# EAGLE library part EPM7160-P160 (library altera_SGQ)
EPM7160S MAX 7000 family
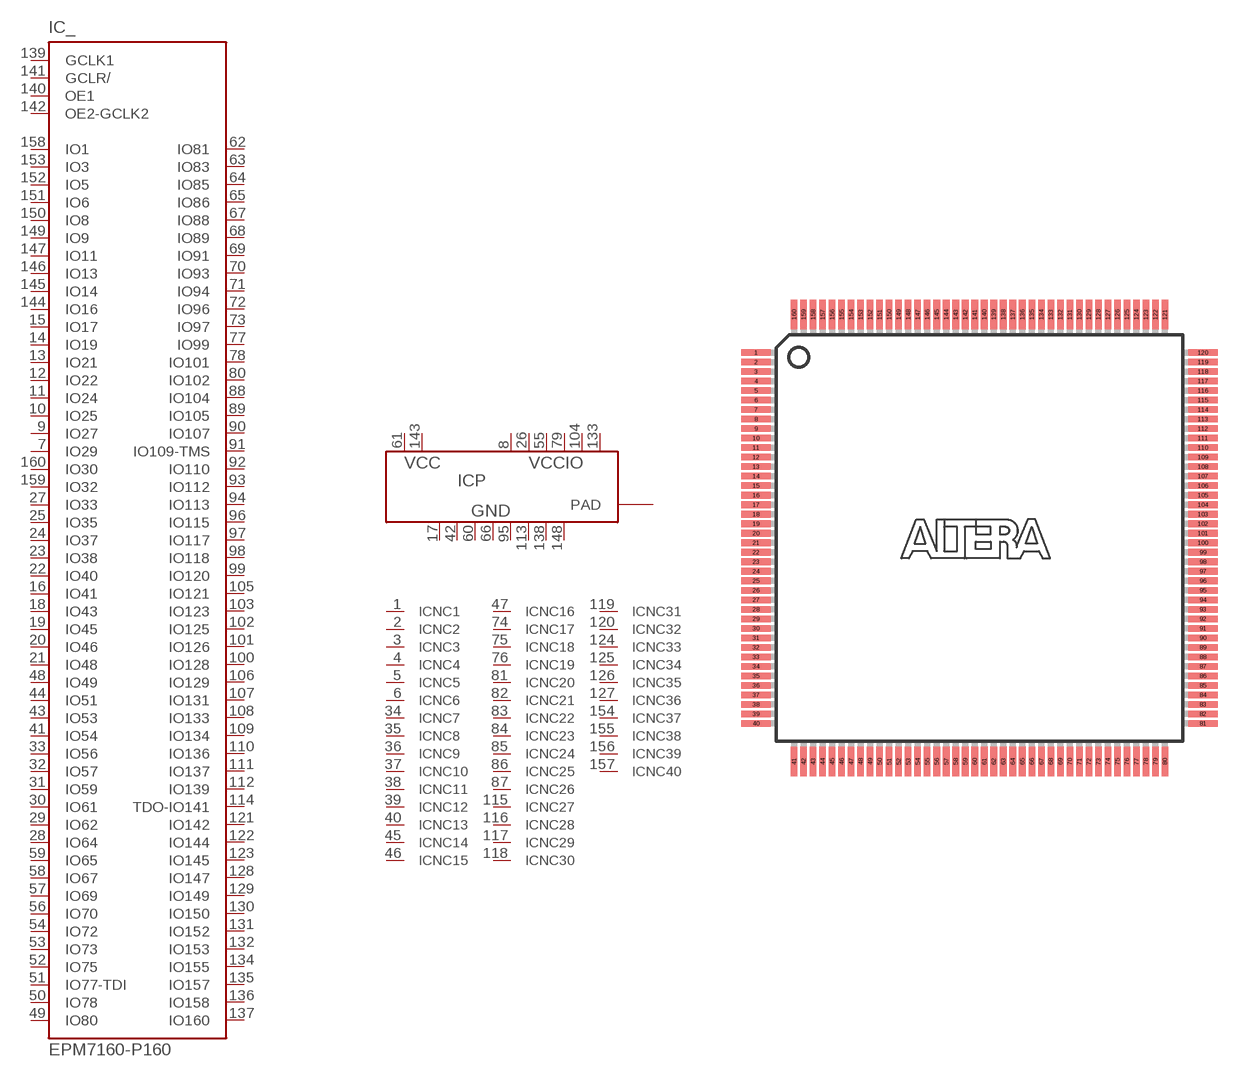
[diagram p18: symbol with the pads of PQFP160; footprint PQFP160]

Designator prefix IC; gates P=PWR8-2-6 NC1=NC NC2=NC NC3=NC NC4=NC NC5=NC NC6=NC NC7=NC NC8=NC NC9=NC NC10=NC NC11=NC NC12=NC NC13=NC NC14=NC NC15=NC NC16=NC NC17=NC NC18=NC NC19=NC NC20=NC NC21=NC NC22=NC NC23=NC NC24=NC NC25=NC NC26=NC NC27=NC NC28=NC NC29=NC NC30=NC NC31=NC NC32=NC NC33=NC NC34=NC NC35=NC NC36=NC NC37=NC NC38=NC NC39=NC NC40=NC _=7160P160

## EPM7160-P160 (MPN: EPM7160SQC160-10N; OC_FARNELL: 1549437; OC_NEWARK: 51R9800)  [PQFP160]
1  NC1:NC  nc
2  NC2:NC  nc
3  NC3:NC  nc
4  NC4:NC  nc
5  NC5:NC  nc
6  NC6:NC  nc
7  _:IO29
8  P:VCCIO  pwr
9  _:IO27
10  _:IO25
11  _:IO24
12  _:IO22
13  _:IO21
14  _:IO19
15  _:IO17
16  _:IO41
17  P:GND  pwr
18  _:IO43
19  _:IO45
20  _:IO46
21  _:IO48
22  _:IO40
23  _:IO38
24  _:IO37
25  _:IO35
26  P:VCCIO  pwr
27  _:IO33
28  _:IO64
29  _:IO62
30  _:IO61
31  _:IO59
32  _:IO57
33  _:IO56
34  NC7:NC  nc
35  NC8:NC  nc
36  NC9:NC  nc
37  NC10:NC  nc
38  NC11:NC  nc
39  NC12:NC  nc
40  NC13:NC  nc
41  _:IO54
42  P:GND  pwr
43  _:IO53
44  _:IO51
45  NC14:NC  nc
46  NC15:NC  nc
47  NC16:NC  nc
48  _:IO49
49  _:IO80
50  _:IO78
51  _:IO77-TDI
52  _:IO75
53  _:IO73
54  _:IO72
55  P:VCCIO  pwr
56  _:IO70
57  _:IO69
58  _:IO67
59  _:IO65
60  P:GND  pwr
61  P:VCC  pwr
62  _:IO81
63  _:IO83
64  _:IO85
65  _:IO86
66  P:GND  pwr
67  _:IO88
68  _:IO89
69  _:IO91
70  _:IO93
71  _:IO94
72  _:IO96
73  _:IO97
74  NC17:NC  nc
75  NC18:NC  nc
76  NC19:NC  nc
77  _:IO99
78  _:IO101
79  P:VCCIO  pwr
80  _:IO102
81  NC20:NC  nc
82  NC21:NC  nc
83  NC22:NC  nc
84  NC23:NC  nc
85  NC24:NC  nc
86  NC25:NC  nc
87  NC26:NC  nc
88  _:IO104
89  _:IO105
90  _:IO107
91  _:IO109-TMS
92  _:IO110
93  _:IO112
94  _:IO113
95  P:GND  pwr
96  _:IO115
97  _:IO117
98  _:IO118
99  _:IO120
100  _:IO128
101  _:IO126
102  _:IO125
103  _:IO123
104  P:VCCIO  pwr
105  _:IO121
106  _:IO129
107  _:IO131
108  _:IO133
109  _:IO134
110  _:IO136
111  _:IO137
112  _:IO139
113  P:GND  pwr
114  _:TDO-IO141
115  NC27:NC  nc
116  NC28:NC  nc
117  NC29:NC  nc
118  NC30:NC  nc
119  NC31:NC  nc
120  NC32:NC  nc
121  _:IO142
122  _:IO144
123  _:IO145
124  NC33:NC  nc
125  NC34:NC  nc
126  NC35:NC  nc
127  NC36:NC  nc
128  _:IO147
129  _:IO149
130  _:IO150
131  _:IO152
132  _:IO153
133  P:VCCIO  pwr
134  _:IO155
135  _:IO157
136  _:IO158
137  _:IO160
138  P:GND  pwr
139  _:GCLK1  in
140  _:OE1  in
141  _:GCLR/  in
142  _:OE2-GCLK2  in
143  P:VCC  pwr
144  _:IO16
145  _:IO14
146  _:IO13
147  _:IO11
148  P:GND  pwr
149  _:IO9
150  _:IO8
151  _:IO6
152  _:IO5
153  _:IO3
154  NC37:NC  nc
155  NC38:NC  nc
156  NC39:NC  nc
157  NC40:NC  nc
158  _:IO1
159  _:IO32
160  _:IO30

## Footprint PQFP160 (pad centres in mm)
Plastic Quad Flat Pack
smd 2 x 0.45: 1 -15.275,12.675; 2 -15.275,12.025; 3 -15.275,11.375; 4 -15.275,10.725; 5 -15.275,10.075; 6 -15.275,9.425; 7 -15.275,8.775; 8 -15.275,8.125; 9 -15.275,7.475; 10 -15.275,6.825; 11 -15.275,6.175; 12 -15.275,5.525; 13 -15.275,4.875; 14 -15.275,4.225; 15 -15.275,3.575; 16 -15.275,2.925; 17 -15.275,2.275; 18 -15.275,1.625; 19 -15.275,0.975; 20 -15.275,0.325; 21 -15.275,-0.325; 22 -15.275,-0.975; 23 -15.275,-1.625; 24 -15.275,-2.275; 25 -15.275,-2.925; 26 -15.275,-3.575; 27 -15.275,-4.225; 28 -15.275,-4.875; 29 -15.275,-5.525; 30 -15.275,-6.175; 31 -15.275,-6.825; 32 -15.275,-7.475; 33 -15.275,-8.125; 34 -15.275,-8.775; 35 -15.275,-9.425; 36 -15.275,-10.075; 37 -15.275,-10.725; 38 -15.275,-11.375; 39 -15.275,-12.025; 40 -15.275,-12.675; 81 15.275,-12.675; 82 15.275,-12.025; 83 15.275,-11.375; 84 15.275,-10.725; 85 15.275,-10.075; 86 15.275,-9.425; 87 15.275,-8.775; 88 15.275,-8.125; 89 15.275,-7.475; 90 15.275,-6.825; 91 15.275,-6.175; 92 15.275,-5.525; 93 15.275,-4.875; 94 15.275,-4.225; 95 15.275,-3.575; 96 15.275,-2.925; 97 15.275,-2.275; 98 15.275,-1.625; 99 15.275,-0.975; 100 15.275,-0.325; 101 15.275,0.325; 102 15.275,0.975; 103 15.275,1.625; 104 15.275,2.275; 105 15.275,2.925; 106 15.275,3.575; 107 15.275,4.225; 108 15.275,4.875; 109 15.275,5.525; 110 15.275,6.175; 111 15.275,6.825; 112 15.275,7.475; 113 15.275,8.125; 114 15.275,8.775; 115 15.275,9.425; 116 15.275,10.075; 117 15.275,10.725; 118 15.275,11.375; 119 15.275,12.025; 120 15.275,12.675
smd 0.45 x 2: 41 -12.675,-15.275; 42 -12.025,-15.275; 43 -11.375,-15.275; 44 -10.725,-15.275; 45 -10.075,-15.275; 46 -9.425,-15.275; 47 -8.775,-15.275; 48 -8.125,-15.275; 49 -7.475,-15.275; 50 -6.825,-15.275; 51 -6.175,-15.275; 52 -5.525,-15.275; 53 -4.875,-15.275; 54 -4.225,-15.275; 55 -3.575,-15.275; 56 -2.925,-15.275; 57 -2.275,-15.275; 58 -1.625,-15.275; 59 -0.975,-15.275; 60 -0.325,-15.275; 61 0.325,-15.275; 62 0.975,-15.275; 63 1.625,-15.275; 64 2.275,-15.275; 65 2.925,-15.275; 66 3.575,-15.275; 67 4.225,-15.275; 68 4.875,-15.275; 69 5.525,-15.275; 70 6.175,-15.275; 71 6.825,-15.275; 72 7.475,-15.275; 73 8.125,-15.275; 74 8.775,-15.275; 75 9.425,-15.275; 76 10.075,-15.275; 77 10.725,-15.275; 78 11.375,-15.275; 79 12.025,-15.275; 80 12.675,-15.275; 121 12.675,15.275; 122 12.025,15.275; 123 11.375,15.275; 124 10.725,15.275; 125 10.075,15.275; 126 9.425,15.275; 127 8.775,15.275; 128 8.125,15.275; 129 7.475,15.275; 130 6.825,15.275; 131 6.175,15.275; 132 5.525,15.275; 133 4.875,15.275; 134 4.225,15.275; 135 3.575,15.275; 136 2.925,15.275; 137 2.275,15.275; 138 1.625,15.275; 139 0.975,15.275; 140 0.325,15.275; 141 -0.325,15.275; 142 -0.975,15.275; 143 -1.625,15.275; 144 -2.275,15.275; 145 -2.925,15.275; 146 -3.575,15.275; 147 -4.225,15.275; 148 -4.875,15.275; 149 -5.525,15.275; 150 -6.175,15.275; 151 -6.825,15.275; 152 -7.475,15.275; 153 -8.125,15.275; 154 -8.775,15.275; 155 -9.425,15.275; 156 -10.075,15.275; 157 -10.725,15.275; 158 -11.375,15.275; 159 -12.025,15.275; 160 -12.675,15.275